# EAGLE library part TPA731 (library EE445L)
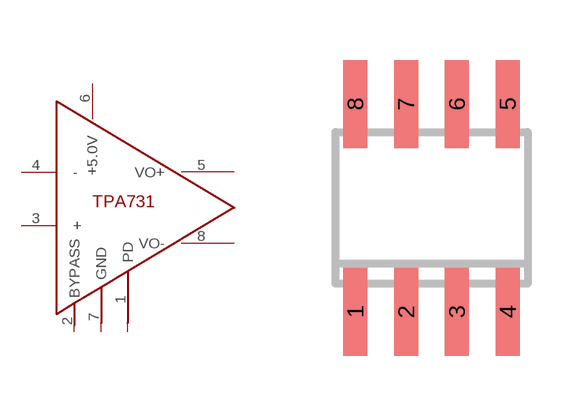
[diagram p26: symbol with the pads of SO08; footprint SO08]

Designator prefix -

## TPA731  [SO08]
1  PD
2  BYPASS
3  +
4  -
5  VO+
6  +5.0V
7  GND
8  VO-

## Footprint SO08 (pad centres in mm)
Small Outline Package 8 NS Package M08A
smd 0.6 x 2.2: 1 -1.905,-2.6; 2 -0.635,-2.6; 3 0.635,-2.6; 4 1.905,-2.6; 5 1.905,2.6; 6 0.635,2.6; 7 -0.635,2.6; 8 -1.905,2.6